# EAGLE library part 5051101092 (library badge)
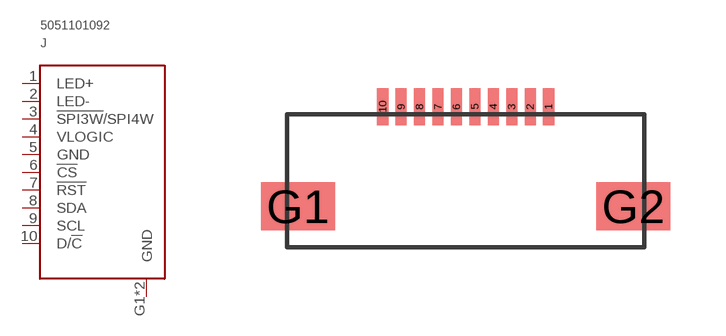
[diagram p0: symbol with the pads of 5051101092; footprint 5051101092]

Designator prefix J

## 5051101092  [5051101092]
1  LED+
2  LED-
3  !SPI3W!/SPI4W
4  VLOGIC
5  GND
6  !CS
7  !RST
8  SDA
9  SCL
10  D/!C
G1  GND
G2  GND

## Footprint 5051101092 (pad centres in mm)
smd 0.3 x 1: 1 2.25,0; 2 1.75,0; 3 1.25,0; 4 0.75,0; 5 0.25,0; 6 -0.25,0; 7 -0.75,0; 8 -1.25,0; 9 -1.75,0; 10 -2.25,0
smd 2 x 1.3: G1 -4.55,-2.7; G2 4.55,-2.7